# EAGLE library part SX1250 (library IC_Wireless-RF)
SX1250 - Multi-band Sub-GHz RF Front End Datasheet <https://semtech.my.salesforce.com/sfc/p/#E0000000JelG/a/2R000000HTAF/wqCYqYPC0Z5rgGvER7_RtmlGeQhc31idv6bvSW4c_FQ> Product Page <https://www.semtech.com/products/wireless-rf/lora-core/sx1250imltrt>
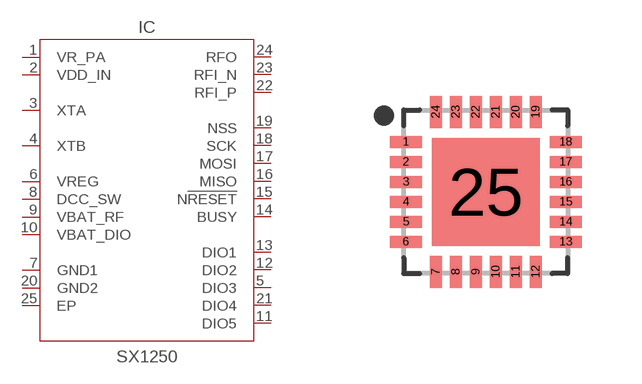
[diagram p14: symbol with the pads of QFN50P400X400X100-25T270; footprint QFN50P400X400X100-25T270]

Designator prefix IC

## SX1250 (CATEGORY: IC_Wireless-RF; DESCRIPTION: SUB-GHZ RF FRONT END TRANSCIEVER; FREQUENCY: 150MHz ~ 960MHz; MANUFACTURER: Semtech; MPN: SX1250IMLTRT; OPERATING_TEMP: -40°C to 85°C; PART_STATUS: Active; SERIES: SX1250; SUB-CATEGORY: Transceiver; TYPE: LoRa Core™; VALUE: SX1250)  [QFN50P400X400X100-25T270]
1  VR_PA
2  VDD_IN
3  XTA
4  XTB
5  DIO3
6  VREG
7  GND1
8  DCC_SW
9  VBAT_RF
10  VBAT_DIO
11  DIO5
12  DIO2
13  DIO1
14  BUSY
15  N!RESET!
16  MISO
17  MOSI
18  SCK
19  NSS
20  GND2
21  DIO4
22  RFI_P
23  RFI_N
24  RFO
25  EP

## Footprint QFN50P400X400X100-25T270 (pad centres in mm)
24-QFN, 0.50 mm pitch, 4.00 X 4.00 X 1.00 mm body, 2.70 X 2.70 mm thermal pad 24-pin QFN package with 0.50 mm pitch with body size 4.00 X 4.00 X 1.00 mm and thermal pad size 2.70 X 2.70 mm
smd 0.8 x 0.3: 1 -2,1.25; 2 -2,0.75; 3 -2,0.25; 4 -2,-0.25; 5 -2,-0.75; 6 -2,-1.25; 13 2,-1.25; 14 2,-0.75; 15 2,-0.25; 16 2,0.25; 17 2,0.75; 18 2,1.25
smd 0.3 x 0.8: 7 -1.25,-2; 8 -0.75,-2; 9 -0.25,-2; 10 0.25,-2; 11 0.75,-2; 12 1.25,-2; 19 1.25,2; 20 0.75,2; 21 0.25,2; 22 -0.25,2; 23 -0.75,2; 24 -1.25,2
smd 2.7 x 2.7: 25 0,0